# Altium footprint library SODFL4625X120N.PcbLib: 1 footprints
Each footprint in its own frame and in the unit in brackets; x right, y up, seen from the top. Pads: shape width x height; smd on the part's side, far side on the other; paste and mask are expansions set on the pad; w line width, h text height; cw(c..) or ccw(c..) is an arc to the next point about the centre after c.
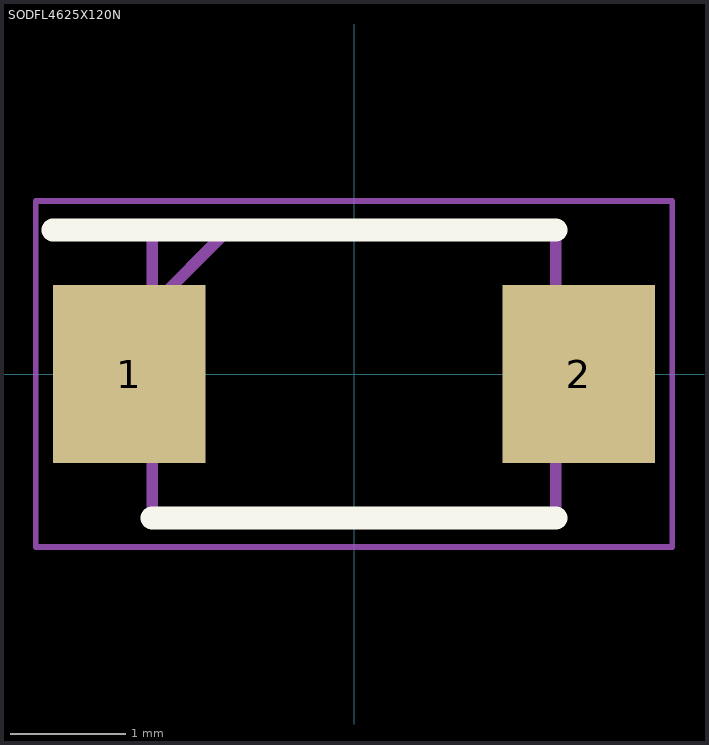
[diagram p0: the footprint, top view; thin cyan lines are the x and y axes]

## SODFL4625X120N [mm]
pads (2):
  rect 1.32x1.54 smd: 1(-1.95,0) 2(1.95,0)
Top Overlay:
  lines w0.2: -2.61,1.25 1.75,1.25 ; -1.75,-1.25 1.75,-1.25
Mechanical 15:
  lines w0.1: -1.75,0.59 -1.09,1.25 ; -1.75,-1.25 1.75,-1.25 1.75,1.25 -1.75,1.25 -1.75,-1.25
Mechanical 20:
  lines w0.05: -2.76,-1.5 2.76,-1.5 2.76,1.5 -2.76,1.5 -2.76,-1.5